# EAGLE library part MAX7221 (library induction-heater)
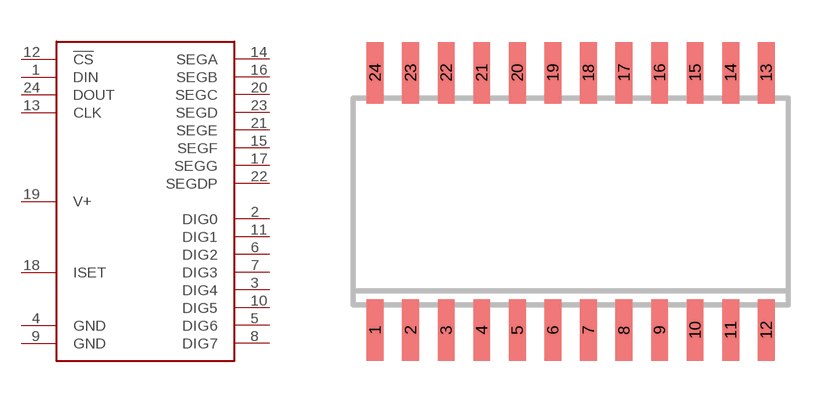
[diagram p1: symbol with the pads of SO24W; footprint SO24W]

Designator prefix -

## MAX7221  [SO24W]
1  DIN  in
2  DIG0  pas
3  DIG4  pas
4  GND  pas
5  DIG6  pas
6  DIG2  pas
7  DIG3  pas
8  DIG7  pas
9  GND  pas
10  DIG5  pas
11  DIG1  pas
12  !CS!  in
13  CLK  in
14  SEGA  pas
15  SEGF  pas
16  SEGB  pas
17  SEGG  pas
18  ISET  pas
19  V+  pas
20  SEGC  pas
21  SEGE  pas
22  SEGDP  pas
23  SEGD  pas
24  DOUT  out

## Footprint SO24W (pad centres in mm)
SMALL OUTLINE INTEGRATED CIRCUIT wide body 7.5 mm/JEDEC MO-119AA
smd 0.6 x 2.2: 1 -6.985,-4.6; 2 -5.715,-4.6; 3 -4.445,-4.6; 4 -3.175,-4.6; 5 -1.905,-4.6; 6 -0.635,-4.6; 7 0.635,-4.6; 8 1.905,-4.6; 9 3.175,-4.6; 10 4.445,-4.6; 11 5.715,-4.6; 12 6.985,-4.6; 13 6.985,4.6; 14 5.715,4.6; 15 4.445,4.6; 16 3.175,4.6; 17 1.905,4.6; 18 0.635,4.6; 19 -0.635,4.6; 20 -1.905,4.6; 21 -3.175,4.6; 22 -4.445,4.6; 23 -5.715,4.6; 24 -6.985,4.6